# Altium footprint library Fuses.PcbLib: 86 footprints (part 4 of 6)
Each footprint in its own frame and in the unit in brackets; x right, y up, seen from the top. Pads: shape width x height; smd on the part's side, far side on the other; paste and mask are expansions set on the pad; w line width, h text height; cw(c..) or ccw(c..) is an arc to the next point about the centre after c.
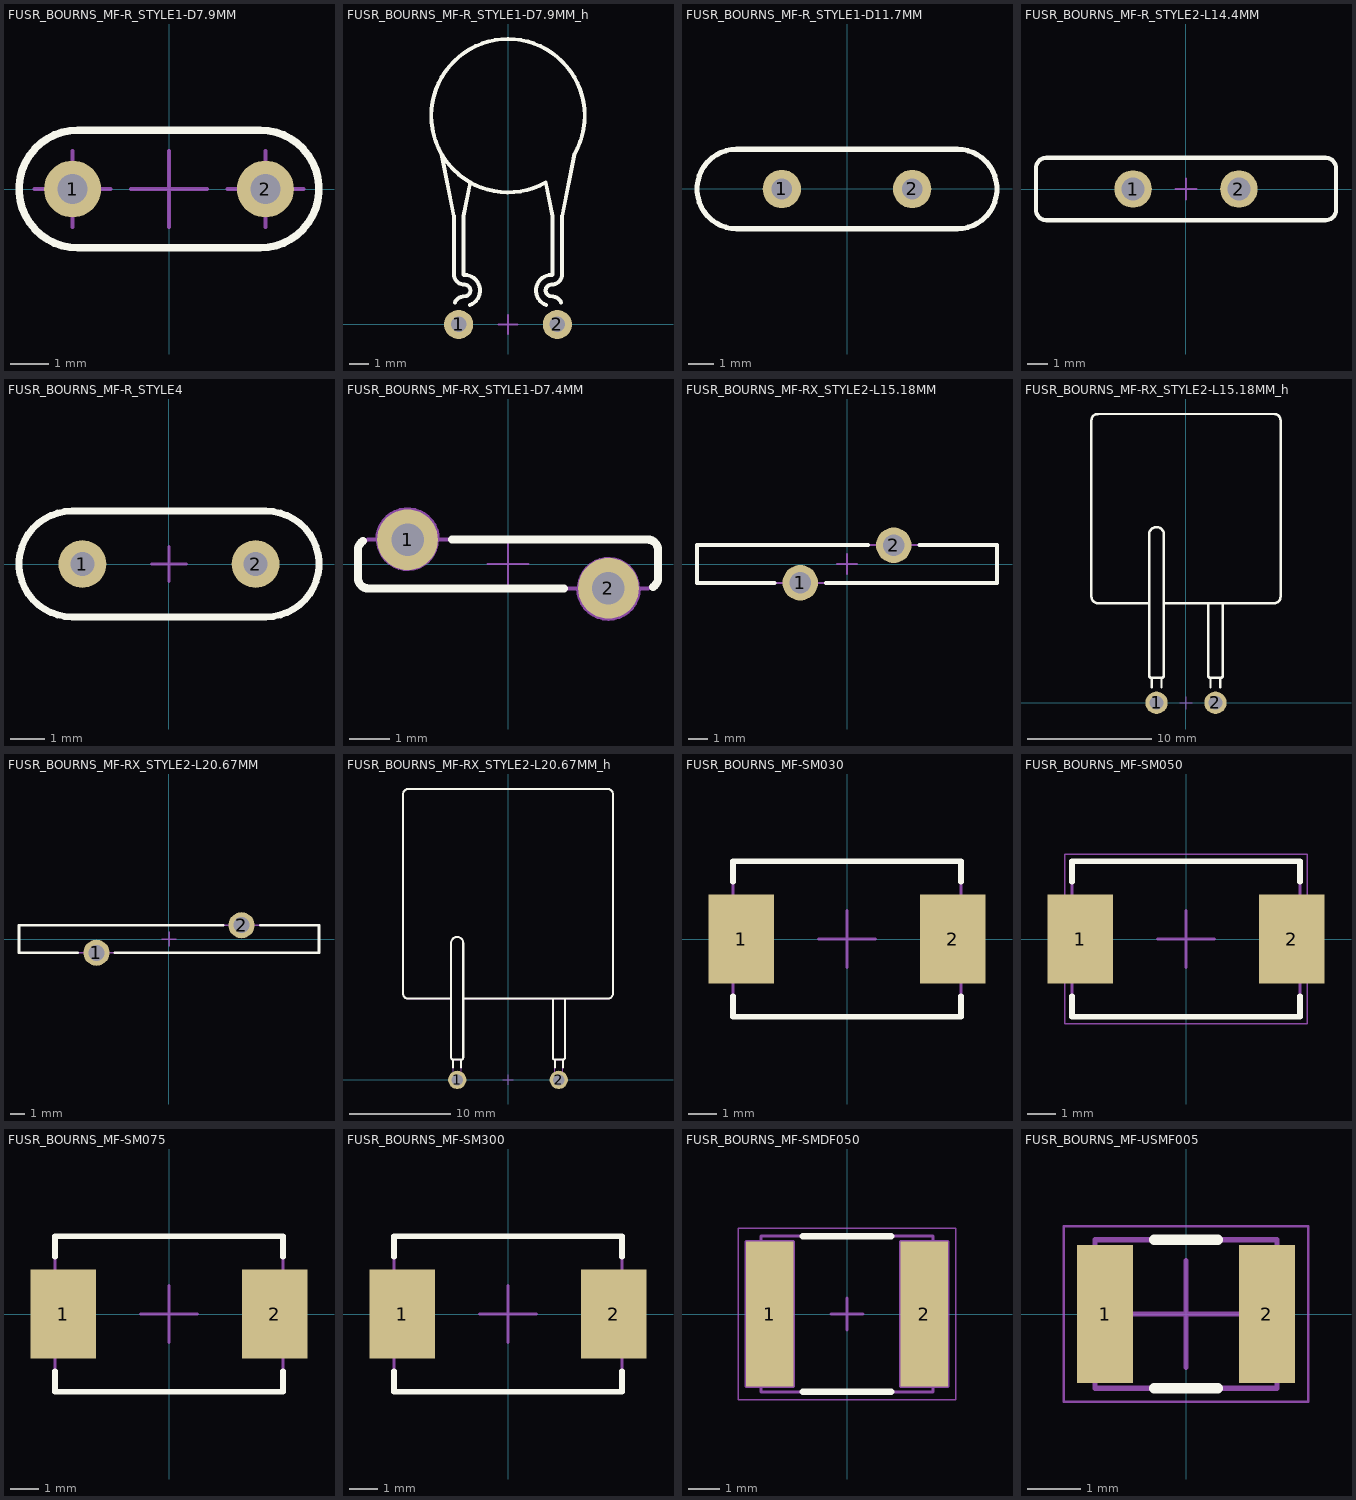
[diagram p3: the footprints below, top view; thin cyan lines are the x and y axes]

## FUSR_BOURNS_MF-R_STYLE1-D7.9MM [mm] "PTC Resettable Fuse, MF-R Series, Case style 1 Diametre 7.9mm"
height 13.7
pads (2):
  round 1.5 hole 0.8: 1(-2.54,0) 2(2.54,0)
Top Overlay:
  lines w0.2: -2.4,-1.55 cw(c-2.4,0) -2.4,1.55 2.4,1.55 cw(c2.4,0) 2.4,-1.55 -2.4,-1.55
Mechanical 8:
  lines w0.1: -3.54,0 -2.54,0 ; -2.54,-1 -2.54,0 ; -2.54,1 -2.54,0 ; -1.54,0 -2.54,0 ; -1,0 0,0 ; 0,-1 0,0 ; 0,1 0,0 ; 1,0 0,0 ; 1.54,0 2.54,0 ; 2.54,-1 2.54,0 ; 2.54,1 2.54,0 ; 3.54,0 2.54,0
Mechanical 14:
  lines w0.1: -2.4,-1.55 cw(c-2.4,0) -2.4,1.55 2.4,1.55 cw(c2.4,0) 2.4,-1.55 -2.4,-1.55
3D body "FUSR_BOURNS_MF-R_STYLE1-D7.9MM.stp": height 13.7, standoff -3.6, extent -3.95,-1.55 3.95,1.55

## FUSR_BOURNS_MF-R_STYLE1-D7.9MM_h [mm] "PTC Resettable Fuse, MF-R Series, Case style 1 Diametre 7.9mm"
height 3.1
pads (2):
  round 1.5 hole 0.8: 1(-2.54,0) 2(2.54,0)
Top Overlay:
  lines w0.2: -3.43,8.792 -2.79,5.59 -2.79,2.6 ccw(c-2.24,2.6) -2.24,2.05 cw(c-2.24,1.75) -2.24,1.45 ccw(c-2.24,0.9) -2.738,1.133 ; -1.968,0.998 ccw(c-2.24,1.75) -2.24,2.55 cw(c-2.24,2.6) -2.29,2.6 -2.29,5.586 -1.944,7.311 ; 1.968,0.998 cw(c2.24,1.75) 2.24,2.55 ccw(c2.24,2.6) 2.29,2.6 2.29,5.59 1.946,7.312 cw(c0,10.75) 3.43,8.792 2.79,5.59 2.79,2.6 cw(c2.24,2.6) 2.24,2.05 ccw(c2.24,1.75) 2.24,1.45 cw(c2.24,0.9) 2.738,1.133
Mechanical 8:
  lines w0.1: -3.04,0 -2.54,0 ; -2.54,-0.5 -2.54,0 ; -2.54,0.5 -2.54,0 ; -2.04,0 -2.54,0 ; -0.5,0 0,0 ; 0,-0.5 0,0 ; 0,0.5 0,0 ; 0.5,0 0,0 ; 2.04,0 2.54,0 ; 2.54,-0.5 2.54,0 ; 2.54,0.5 2.54,0 ; 3.04,0 2.54,0
3D body "FUSR_BOURNS_MF-R_STYLE1-D7.9MM_h.stp": height 3.1, standoff -3.2, extent -3.95,-0.25 3.95,14.7

## FUSR_BOURNS_MF-R_STYLE1-D11.7MM [mm] "PTC Resettable Fuse, MF-R Series, Case style 1 Diametre 11.7mm"
height 16.7
pads (2):
  round 1.5 hole 0.8: 1(-2.54,0) 2(2.54,0)
Top Overlay:
  lines w0.2: -4.3,-1.55 cw(c-4.3,0) -4.3,1.55 4.3,1.55 cw(c4.3,0) 4.3,-1.55 -4.3,-1.55
Mechanical 14:
  lines w0.1: -4.3,-1.55 cw(c-4.3,0) -4.3,1.55 4.3,1.55 cw(c4.3,0) 4.3,-1.55 -4.3,-1.55
3D body "FUSR_BOURNS_MF-R_STYLE1-D11.7MM.stp": height 16.7, standoff -3.6, extent -5.85,-1.55 5.85,1.55

## FUSR_BOURNS_MF-R_STYLE2-L14.4MM [mm] "PTC Resettable Fuse, MF-R Series, Case style 2 Length 14.4mm"
height 24.8
pads (2):
  round 1.8 hole 1.1: 1(-2.54,0) 2(2.54,0)
Top Overlay:
  lines w0.2: -7.2,-1 ccw(c-6.7,-1) -6.7,-1.5 6.7,-1.5 ccw(c6.7,-1) 7.2,-1 7.2,1 ccw(c6.7,1) 6.7,1.5 -6.7,1.5 ccw(c-6.7,1) -7.2,1 -7.2,-1
Mechanical 8:
  lines w0.1: -3.04,0 -2.54,0 ; -2.54,-0.5 -2.54,0 ; -2.54,0.5 -2.54,0 ; -2.04,0 -2.54,0 ; -0.5,0 0,0 ; 0,-0.5 0,0 ; 0,0.5 0,0 ; 0.5,0 0,0 ; 2.04,0 2.54,0 ; 2.54,-0.5 2.54,0 ; 2.54,0.5 2.54,0 ; 3.04,0 2.54,0
Mechanical 14:
  lines w0.1: -7.2,-1 ccw(c-6.7,-1) -6.7,-1.5 6.7,-1.5 ccw(c6.7,-1) 7.2,-1 7.2,1 ccw(c6.7,1) 6.7,1.5 -6.7,1.5 ccw(c-6.7,1) -7.2,1 -7.2,-1
3D body "FUSR_BOURNS_MF-R_STYLE2-L14.4MM.stp": height 24.8, standoff -3.2, extent -7.116,-1.461 7.117,1.465

## FUSR_BOURNS_MF-R_STYLE4 [mm] "PTC Resettable Fuse, MF-R Series, Case style 4"
height 8.3
pads (2):
  round 1.4 hole 0.7: 1(-2.54,0) 2(2.54,0)
Top Overlay:
  lines w0.2: -2.85,-1.55 cw(c-2.85,0) -2.85,1.55 2.85,1.55 cw(c2.85,0) 2.85,-1.55 -2.85,-1.55
Mechanical 8:
  lines w0.1: -3.04,0 -2.54,0 ; -2.54,-0.5 -2.54,0 ; -2.54,0.5 -2.54,0 ; -2.04,0 -2.54,0 ; -0.5,0 0,0 ; 0,-0.5 0,0 ; 0,0.5 0,0 ; 0.5,0 0,0 ; 2.04,0 2.54,0 ; 2.54,-0.5 2.54,0 ; 2.54,0.5 2.54,0 ; 3.04,0 2.54,0
Mechanical 14:
  circle w0.1: c2.54,0 r0.202
  lines w0.1: -2.85,-1.55 cw(c-2.85,0) -2.85,1.55 2.85,1.55 cw(c2.85,0) 2.85,-1.55 -2.85,-1.55
3D body "FUSR_BOURNS_MF-R_STYLE4.stp": height 8.3, standoff -3.2, extent -4.38,-1.55 4.38,1.55

## FUSR_BOURNS_MF-RX_STYLE1-D7.4MM [mm] "PTC Resettable Fuse, MF-RX/72 Series, Case style 1, Diametre 7.4mm"
height 13.4
pads (2):
  round 1.5 hole 0.8: 1(-2.478,0.6) 2(2.478,-0.6)
Top Overlay:
  lines w0.2: -3.577,0.565 ccw(c-3.45,0.35) -3.7,0.35 -3.7,-0.35 ccw(c-3.45,-0.35) -3.45,-0.6 1.378,-0.6 ; -1.378,0.6 3.45,0.6 cw(c3.45,0.35) 3.7,0.35 3.7,-0.35 cw(c3.45,-0.35) 3.577,-0.565
Mechanical 8:
  circle w0.05: c-2.478,0.6 r0.4
  circle w0.05: c-2.478,0.6 r0.75
  circle w0.05: c2.478,-0.6 r0.4
  circle w0.05: c2.478,-0.6 r0.75
  lines w0.05: -2.978,0.6 -2.478,0.6 ; -2.478,0.1 -2.478,0.6 ; -2.478,1.1 -2.478,0.6 ; -1.978,0.6 -2.478,0.6 ; -0.5,0 0,0 ; 0,-0.5 0,0 ; 0,0.5 0,0 ; 0.5,0 0,0 ; 1.978,-0.6 2.478,-0.6 ; 2.478,-1.1 2.478,-0.6 ; 2.478,-0.1 2.478,-0.6 ; 2.978,-0.6 2.478,-0.6
Mechanical 14:
  lines w0.1: -3.228,0.6 cw(c-2.478,0.6) -1.728,0.6 ; 1.728,-0.6 ccw(c2.478,-0.6) 3.228,-0.6 ; -3.7,-0.35 ccw(c-3.45,-0.35) -3.45,-0.6 3.45,-0.6 ccw(c3.45,-0.35) 3.7,-0.35 3.7,0.35 ccw(c3.45,0.35) 3.45,0.6 -3.45,0.6 ccw(c-3.45,0.35) -3.7,0.35 -3.7,-0.35
3D body "FUSR_BOURNS_MF-RX_STYLE1-D7.4MM.stp": height 13.39, standoff -3.6, extent -3.699,-1.549 3.7,1.549

## FUSR_BOURNS_MF-RX_STYLE2-L15.18MM [mm] "PTC Resettable Fuse, MF-RX/72 Series, Case style 2, Length 15.18mm"
height 21.18
pads (2):
  round 1.8 hole 1.1: 1(-2.366,-0.95) 2(2.366,0.95)
Top Overlay:
  lines w0.2: -3.666,-0.95 -7.59,-0.95 -7.59,0.95 1.066,0.95 ; -1.066,-0.95 7.59,-0.95 7.59,0.95 3.666,0.95
Mechanical 8:
  lines w0.1: -2.866,-0.95 -2.366,-0.95 ; -2.366,-1.45 -2.366,-0.95 ; -2.366,-0.45 -2.366,-0.95 ; -1.866,-0.95 -2.366,-0.95 ; -0.5,0 0,0 ; 0,-0.5 0,0 ; 0,0.5 0,0 ; 0.5,0 0,0 ; 1.866,0.95 2.366,0.95 ; 2.366,0.45 2.366,0.95 ; 2.366,1.45 2.366,0.95 ; 2.866,0.95 2.366,0.95
Mechanical 14:
  lines w0.1: -2.966,-0.95 ccw(c-2.366,-0.95) -1.766,-0.95 ; 1.766,0.95 cw(c2.366,0.95) 2.966,0.95 ; -7.59,-0.95 -7.59,0.95 7.59,0.95 7.59,-0.95 -7.59,-0.95
3D body "FUSR_BOURNS_MF-RX_STYLE2-L15.18MM.stp": height 21.18, standoff -3.6, extent -7.59,-1.55 7.59,1.55

## FUSR_BOURNS_MF-RX_STYLE2-L15.18MM_h [mm] "PTC Resettable Fuse, MF-RX/72 Series, Case style 2, Length 15.18mm"
height 3.7
pads (2):
  round 1.8 hole 1.1: 1(-2.366,0) 2(2.366,0)
Top Overlay:
  lines w0.2: -2.766,1.237 -2.766,2 ; -1.966,1.237 -1.966,2 ; 1.771,8 1.771,2.2 ccw(c1.971,2.2) 1.971,2 2.766,2 ; 1.966,1.237 1.966,2 ; 2.766,1.237 2.766,2 ; 2.966,8 2.966,2.2 cw(c2.766,2.2) 2.766,2 ; -2.966,8 -2.966,13.5 cw(c-2.366,13.5) -1.766,13.5 -1.766,8 ; -2.966,8 -2.966,2.2 ccw(c-2.766,2.2) -2.766,2 ; -2.966,8 -7.09,8 cw(c-7.09,8.5) -7.59,8.5 -7.59,22.677 cw(c-7.09,22.677) -7.09,23.177 7.09,23.18 cw(c7.09,22.68) 7.59,22.68 7.59,8.5 cw(c7.09,8.5) 7.09,8 -1.766,8 ; -2.766,2 -1.966,2 ; -1.966,2 ccw(c-1.966,2.2) -1.766,2.2 -1.766,8
Mechanical 8:
  lines w0.1: -2.866,0 -2.366,0 ; -2.366,-0.5 -2.366,0 ; -2.366,0.5 -2.366,0 ; -1.866,0 -2.366,0 ; -0.5,0 0,0 ; 0,-0.5 0,0 ; 0,0.5 0,0 ; 0.5,0 0,0 ; 1.866,0 2.366,0 ; 2.366,-0.5 2.366,0 ; 2.366,0.5 2.366,0 ; 2.866,0 2.366,0
3D body "FUSR_BOURNS_MF-RX_STYLE2-L15.18MM_h.stp": height 3.7, standoff -3, extent -7.59,-0.4 7.59,23.18

## FUSR_BOURNS_MF-RX_STYLE2-L20.67MM [mm] "PTC Resettable Fuse, MF-RX/72 Series, Case style 2, Length 20.67mm"
height 26.67
pads (2):
  round 1.8 hole 1.1: 1(-5,-0.95) 2(5,0.95)
Top Overlay:
  lines w0.2: -6.311,-0.95 -10.335,-0.95 -10.335,0.95 3.711,0.95 ; -3.711,-0.95 10.335,-0.95 10.335,0.95 6.311,0.95
Mechanical 8:
  lines w0.1: -5.511,-0.95 -5.011,-0.95 ; -5.011,-1.45 -5.011,-0.95 ; -5.011,-0.45 -5.011,-0.95 ; -4.511,-0.95 -5.011,-0.95 ; -0.5,0 0,0 ; 0,-0.5 0,0 ; 0,0.5 0,0 ; 0.5,0 0,0 ; 4.511,0.95 5.011,0.95 ; 5.011,0.45 5.011,0.95 ; 5.011,1.45 5.011,0.95 ; 5.511,0.95 5.011,0.95
Mechanical 14:
  lines w0.1: -10.335,-0.95 -10.335,0.95 4.411,0.95 cw(c5.011,0.95) 5.611,0.95 10.335,0.95 10.335,-0.95 -4.411,-0.95 cw(c-5.011,-0.95) -5.611,-0.95 -10.335,-0.95
3D body "FUSR_BOURNS_MF-RX_STYLE2-L20.67MM.stp": height 26.67, standoff -3.6, extent -10.335,-1.55 10.335,1.55

## FUSR_BOURNS_MF-RX_STYLE2-L20.67MM_h [mm] "PTC Resettable Fuse, MF-RX/72 Series, Case style 2, Length 20.67mm"
height 3.7
pads (2):
  round 1.8 hole 1.1: 1(-5,0) 2(5,0)
Top Overlay:
  lines w0.2: -5.611,8 -9.835,8 cw(c-9.835,8.5) -10.335,8.5 -10.335,28.17 cw(c-9.835,28.17) -9.835,28.67 9.835,28.67 cw(c9.835,28.17) 10.335,28.17 10.335,8.5 cw(c9.835,8.5) 9.835,8 -4.411,8 ; -5.411,1.237 -5.411,2 ; -4.611,1.237 -4.611,2 ; 4.415,8 4.415,2.2 ccw(c4.615,2.2) 4.615,2 5.411,2 ; 4.611,1.237 4.611,2 ; 5.411,1.237 5.411,2 ; 5.611,8 5.611,2.2 cw(c5.411,2.2) 5.411,2 ; -5.411,2 cw(c-5.411,2.2) -5.611,2.2 -5.611,13.5 cw(c-5.011,13.5) -4.411,13.5 -4.411,2.2 cw(c-4.611,2.2) -4.611,2 ; -5.411,2 -4.611,2
Mechanical 8:
  lines w0.1: -5,-0.5 -5,0 ; -4.5,0 -5,0 ; 0,-0.5 0,0 ; 0.5,0 0,0 ; 5,-0.5 5,0 ; 5.5,0 5,0 ; -5,0 -5,0.5 -5,0 ; -5,0 -5.5,0 -5,0 ; 0,0 0,0.5 0,0 ; 0,0 -0.5,0 0,0 ; 5,0 5,0.5 5,0 ; 5,0 4.5,0 5,0
Mechanical 14:
  lines w0.1: -5.611,8 -9.835,8 cw(c-9.835,8.5) -10.335,8.5 -10.335,28.17 cw(c-9.835,28.17) -9.835,28.67 9.835,28.67 cw(c9.835,28.17) 10.335,28.17 10.335,8.5 cw(c9.835,8.5) 9.835,8 -4.411,8 ; 4.415,8 4.415,2.2 ccw(c4.615,2.2) 4.615,2 5.411,2 ; 4.611,2 4.611,0 ccw(c5.011,0) 5.411,0 5.411,2 ; 5.611,8 5.611,2.2 cw(c5.411,2.2) 5.411,2 ; -5.411,2 cw(c-5.411,2.2) -5.611,2.2 -5.611,13.5 cw(c-5.011,13.5) -4.411,13.5 -4.411,2.2 cw(c-4.611,2.2) -4.611,2 ; -5.411,2 -5.411,0 ccw(c-5.011,0) -4.611,0 -4.611,2 ; -5.411,2 -4.611,2
3D body "FUSR_BOURNS_MF-RX_STYLE2-L20.67MM_h.stp": height 3.7, standoff -3, extent -10.335,-0.4 10.335,28.67

## FUSR_BOURNS_MF-SM030 [mm] "PolySwitch, 2-Leads, Body 7.98x5.44mm Max"
height 3.18
pads (2):
  rect 2.3x3.1 smd: 1(-3.7,0) 2(3.7,0)
Top Overlay:
  lines w0.2: -3.99,-2 -3.99,-2.72 3.99,-2.72 3.99,-2 ; -3.99,2 -3.99,2.72 3.99,2.72 3.99,2
Mechanical 8:
  lines w0.1: -4.635,0 -3.635,0 ; -3.635,-1 -3.635,0 ; -3.635,1 -3.635,0 ; -2.635,0 -3.635,0 ; -1,0 0,0 ; 0,-1 0,0 ; 0,1 0,0 ; 1,0 0,0 ; 2.635,0 3.635,0 ; 3.635,-1 3.635,0 ; 3.635,1 3.635,0 ; 4.635,0 3.635,0
Mechanical 14:
  lines w0.1: 3.99,-1.205 3.99,1.205 ; -3.99,-2.72 -3.99,2.72 3.99,2.72 3.99,-2.72 -3.99,-2.72
3D body "FUSR_BOURNS_MF-SM030.stp": height 3.18, standoff 0, extent -3.99,-2.72 3.99,2.72

## FUSR_BOURNS_MF-SM050 [mm] "PolySwitch, 2-Leads, Body 7.98x5.44mm Max"
height 3.18
pads (2):
  rect 2.3x3.1 smd: 1(-3.7,0) 2(3.7,0)
Top Overlay:
  lines w0.2: -3.99,-2 -3.99,-2.72 3.99,-2.72 3.99,-2 ; -3.99,2 -3.99,2.72 3.99,2.72 3.99,2
Mechanical 8:
  lines w0.1: -4.635,0 -3.635,0 ; -3.635,-1 -3.635,0 ; -3.635,1 -3.635,0 ; -2.635,0 -3.635,0 ; -1,0 0,0 ; 0,-1 0,0 ; 0,1 0,0 ; 1,0 0,0 ; 2.635,0 3.635,0 ; 3.635,-1 3.635,0 ; 3.635,1 3.635,0 ; 4.635,0 3.635,0
Mechanical 14:
  lines w0.1: 3.99,-1.205 3.99,1.205 ; -3.99,-2.72 3.99,-2.72 3.99,2.72 -3.99,2.72 -3.99,-2.72
Mechanical 15:
  lines w0.05: -4.24,-2.97 -4.24,2.97 4.24,2.97 4.24,-2.97 -4.24,-2.97
3D body "FUSR_BOURNS_MF-SM050.stp": height 3.18, standoff 0, extent -3.99,-2.72 3.99,2.72

## FUSR_BOURNS_MF-SM075 [mm] "PolySwitch, 2-Leads, Body 7.98x5.44mm Max"
height 3.18
pads (2):
  rect 2.3x3.1 smd: 1(-3.7,0) 2(3.7,0)
Top Overlay:
  lines w0.2: -3.99,-2 -3.99,-2.72 3.99,-2.72 3.99,-2 ; -3.99,2 -3.99,2.72 3.99,2.72 3.99,2
Mechanical 8:
  lines w0.1: -4.635,0 -3.635,0 ; -3.635,-1 -3.635,0 ; -3.635,1 -3.635,0 ; -2.635,0 -3.635,0 ; -1,0 0,0 ; 0,-1 0,0 ; 0,1 0,0 ; 1,0 0,0 ; 2.635,0 3.635,0 ; 3.635,-1 3.635,0 ; 3.635,1 3.635,0 ; 4.635,0 3.635,0
Mechanical 14:
  lines w0.1: 3.99,-1.205 3.99,1.205 ; -3.99,-2.72 -3.99,2.72 3.99,2.72 3.99,-2.72 -3.99,-2.72
3D body "FUSR_BOURNS_MF-SM075.stp": height 3.18, standoff 0, extent -3.99,-2.72 3.99,2.72

## FUSR_BOURNS_MF-SM300 [mm] "PolySwitch, 2-Leads, Body 7.98x5.44mm Max"
height 3
pads (2):
  rect 2.3x3.1 smd: 1(-3.7,0) 2(3.7,0)
Top Overlay:
  lines w0.2: -3.99,-2 -3.99,-2.72 3.99,-2.72 3.99,-2 ; -3.99,2 -3.99,2.72 3.99,2.72 3.99,2
Mechanical 8:
  lines w0.1: -4.635,0 -3.635,0 ; -3.635,-1 -3.635,0 ; -3.635,1 -3.635,0 ; -2.635,0 -3.635,0 ; -1,0 0,0 ; 0,-1 0,0 ; 0,1 0,0 ; 1,0 0,0 ; 2.635,0 3.635,0 ; 3.635,-1 3.635,0 ; 3.635,1 3.635,0 ; 4.635,0 3.635,0
Mechanical 14:
  lines w0.1: 3.99,-1.205 3.99,1.205 ; -3.99,-2.72 -3.99,2.72 3.99,2.72 3.99,-2.72 -3.99,-2.72
3D body "FUSR_BOURNS_MF-SM300.stp": height 3, standoff 0, extent -3.99,-2.72 3.99,2.72

## FUSR_BOURNS_MF-SMDF050 [mm] "PTC Resettable Fuse, MF-SMDF Series"
height 1.09
pads (2):
  rect 1.5x4.6 smd: 1(-2.45,0) 2(2.45,0)
Top Overlay:
  lines w0.2: -1.4,-2.465 1.4,-2.465 ; -1.4,2.465 1.4,2.465
Mechanical 8:
  lines w0.1: -2.95,0 -2.45,0 ; -2.45,-0.5 -2.45,0 ; -2.45,0.5 -2.45,0 ; -1.95,0 -2.45,0 ; -0.5,0 0,0 ; 0,-0.5 0,0 ; 0,0.5 0,0 ; 0.5,0 0,0 ; 1.95,0 2.45,0 ; 2.45,-0.5 2.45,0 ; 2.45,0.5 2.45,0 ; 2.95,0 2.45,0 ; 1.7,-2.3 3.2,-2.3 3.2,2.3 1.7,2.3 ; 1.7,-2.3 1.7,2.3 ; 1.7,-2.3 1.7,2.3 ; -3.2,-2.3 -1.7,-2.3 -1.7,2.3 -3.2,2.3 -3.2,-2.3
Mechanical 14:
  lines w0.1: -2.72,-2.3 -1.7,-2.3 -1.7,2.3 -2.72,2.3 ; 2.72,-2.3 1.7,-2.3 1.7,2.3 2.72,2.3 ; -2.72,-2.465 2.72,-2.465 2.72,-0.5 cw(c2.72,0) 2.72,0.5 2.72,2.465 -2.72,2.465 -2.72,0.5 cw(c-2.72,0) -2.72,-0.5 -2.72,-2.465
Mechanical 15:
  lines w0.05: -3.45,-2.715 -3.45,2.715 3.45,2.715 3.45,-2.715 -3.45,-2.715
3D body "FUSR_BOURNS_MF-SMDF050.stp": height 1.09, standoff 0, extent -2.72,-2.465 2.72,2.465

## FUSR_BOURNS_MF-USMF005 [mm] "PTC Resettable Fuse, Body 3.215mmx2.575mm, BOURNS MF-USMF Series"
height 1.1
pads (2):
  rect 1.05x2.6 smd: 1(-1.525,0) 2(1.525,0)
Top Overlay:
  lines w0.2: -0.6,-1.4 0.6,-1.4 ; -0.6,1.4 0.6,1.4
Mechanical 8:
  lines w0.1: -1,0 0,0 ; 0,-1 0,0 ; 0,1 0,0 ; 1,0 0,0
Mechanical 14:
  lines w0.1: -1.715,-1.4 1.715,-1.4 1.715,1.4 -1.715,1.4 -1.715,-1.4
Mechanical 15:
  lines w0.05: -2.3,-1.65 -2.3,1.65 2.3,1.65 2.3,-1.65 -2.3,-1.65
3D body "FUSR_BOURNS_MF-USMF005.stp": height 1.1, standoff 0, extent -1.715,-1.4 1.715,1.4